# EAGLE library part OPA23XX (library lib_stankus)
OPA23XX opamp
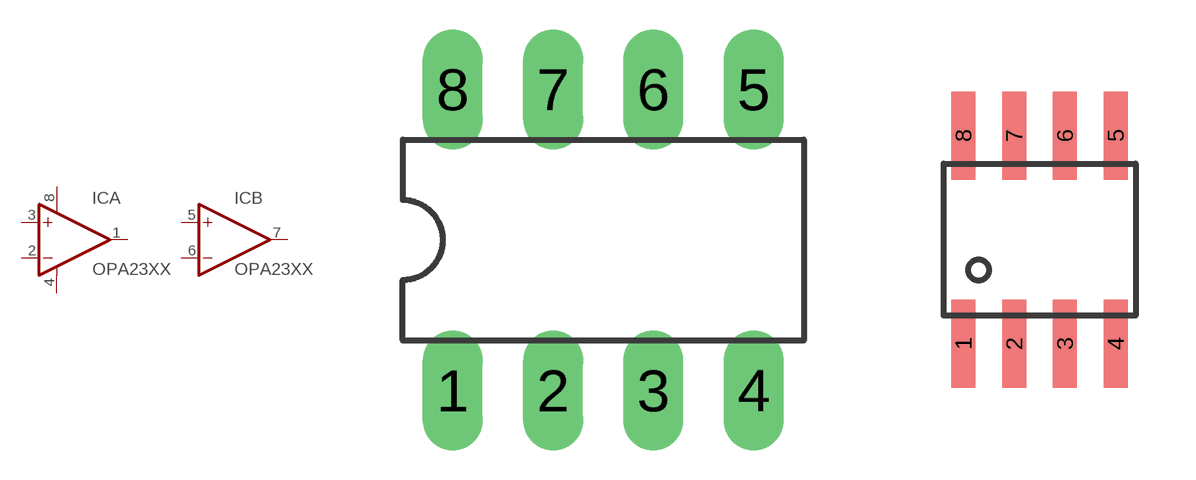
[diagram p20: symbol with the pads of DIL08_BIG; footprints DIL08_BIG, SOIC8]

Designator prefix IC; gates A=OPAMP_PWR B=OPAMP

## OPA23XX-DIL08_BIG  [DIL08_BIG]
1  A:OUT  pas
2  A:-IN  pas
3  A:+IN  pas
4  A:V-  pas
5  B:+IN  pas
6  B:-IN  pas
7  B:OUT  pas
8  A:V+  pas

## OPA23XX-SOIC8  [SOIC8]
Pads as for DIL08_BIG

## Footprint DIL08_BIG (pad centres in mm)
DIL8, 60MIL PADS
drill 0.8 pad 1.524 long: 1 -3.81,-3.81; 2 -1.27,-3.81; 3 1.27,-3.81; 4 3.81,-3.81; 5 3.81,3.81; 6 1.27,3.81; 7 -1.27,3.81; 8 -3.81,3.81

## Footprint SOIC8 (pad centres in mm)
SOIC8
smd 0.6 x 2.2: 1 -1.905,-2.6; 2 -0.635,-2.6; 3 0.635,-2.6; 4 1.905,-2.6; 5 1.905,2.6; 6 0.635,2.6; 7 -0.635,2.6; 8 -1.905,2.6